# Altium schematic symbol library IC-TI.SchLib: 19 symbols
Pins are listed as number, name and electrical type; pins without a type are passive.

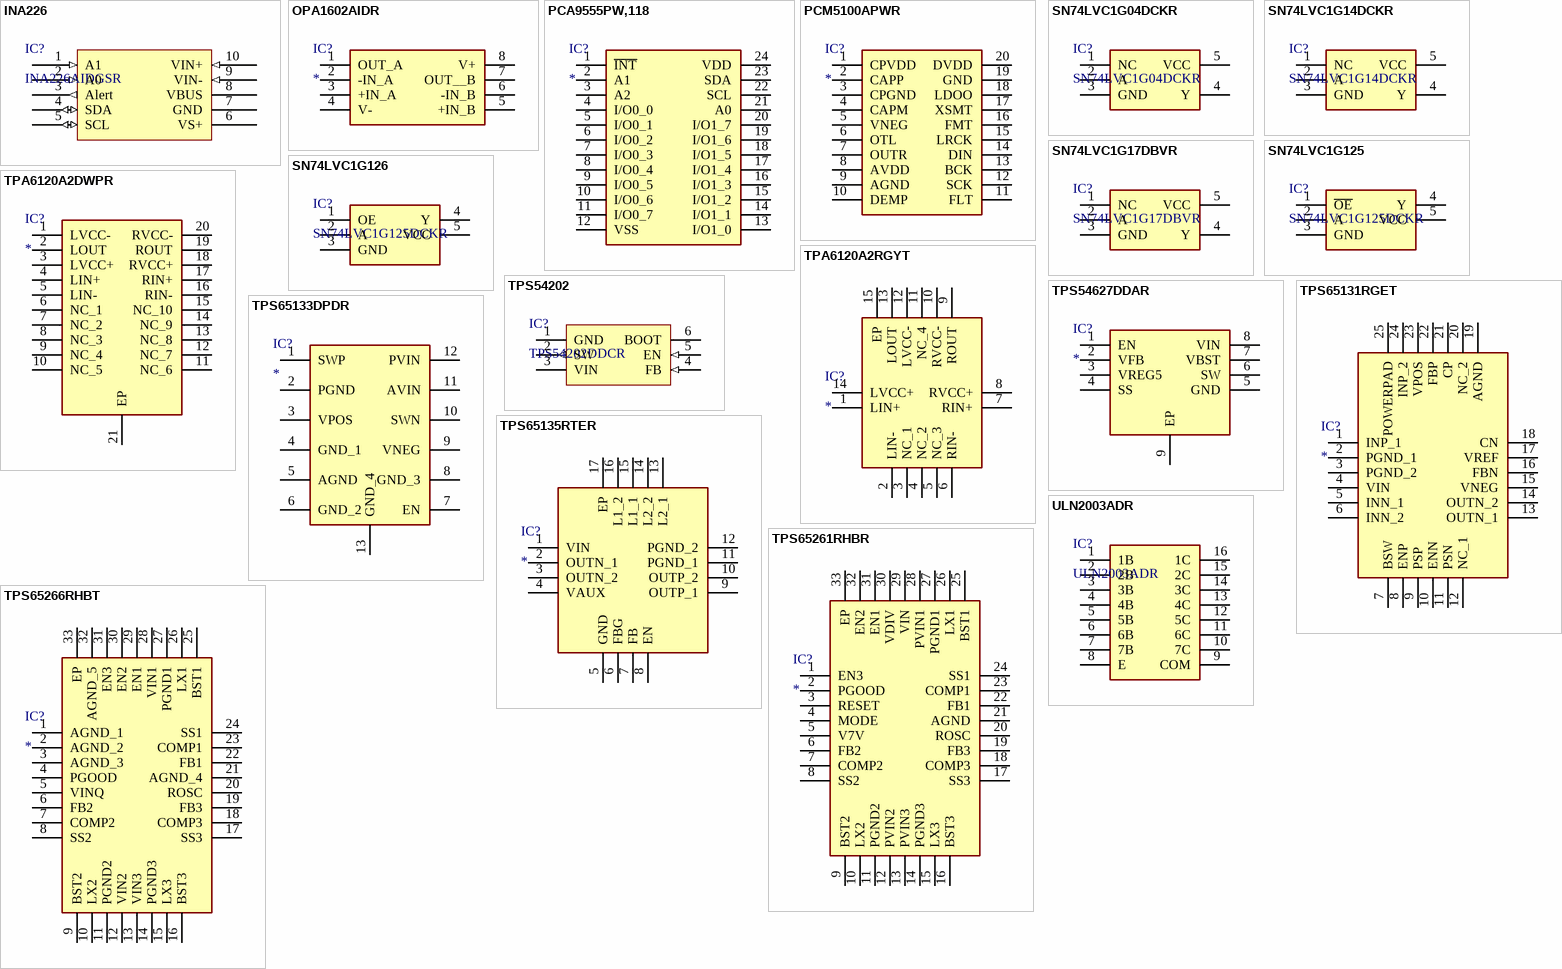
[diagram p0: symbols INA226 to ULN2003ADR]

## INA226
designator IC?, comment INA226AIDGSR
电流监控; Manufacturer_Name: TI(德州仪器); Manufacturer_Part_Number: INA226AIDGSR; LCSC: C49851
footprint MSOP-10
pins: 1 A1 (in), 2 A0 (in), 3 Alert (out), 4 SDA (io), 5 SCL (io), 6 VS+ (power), 7 GND (power), 8 VBUS (power), 9 VIN- (in), 10 VIN+ (in)

## OPA1602AIDR
designator IC?
高性能双极输入音频运算放大器; Manufacturer_Name: TI(德州仪器); Manufacturer_Part_Number: OPA1602AIDR; LCSC: C70884
footprint SOIC-8
pins: 1 OUT_A, 2 -IN_A, 3 +IN_A, 4 V-, 5 +IN_B, 6 -IN_B, 7 OUT__B, 8 V+

## PCA9555PW,118
designator IC?
I/O扩展器芯片; Manufacturer_Name: NXP(恩智浦); Manufacturer_Part_Number: PCA9555PW,118; LCSC: C128392
footprint TSSOP-24 (PCA9555PW,118)
pins: 1 ~{INT}, 2 A1, 3 A2, 4 I/O0_0, 5 I/O0_1, 6 I/O0_2, 7 I/O0_3, 8 I/O0_4, 9 I/O0_5, 10 I/O0_6, 11 I/O0_7, 12 VSS, 13 I/O1_0, 14 I/O1_1, 15 I/O1_2, 16 I/O1_3, 17 I/O1_4, 18 I/O1_5, 19 I/O1_6, 20 I/O1_7, 21 A0, 22 SCL, 23 SDA, 24 VDD

## PCM5100APWR
designator IC?
DAC 音频解码芯片; Manufacturer_Name: TI(德州仪器); Manufacturer_Part_Number: PCM5100APWR; Manufacturer_Part_Number_1: PCM5102APWR; Manufacturer_Name_1: TI(德州仪器)
footprint TSSOP-20 (TSOP, 20-Leads, Body 6.50x4.40mm, Pitch 0.65mm, IPC Medium Density)
pins: 1 CPVDD, 2 CAPP, 3 CPGND, 4 CAPM, 5 VNEG, 6 OTL, 7 OUTR, 8 AVDD, 9 AGND, 10 DEMP, 11 FLT, 12 SCK, 13 BCK, 14 DIN, 15 LRCK, 16 FMT, 17 XSMT, 18 LDOO, 19 GND, 20 DVDD

## SN74LVC1G04DCKR
designator IC?
反相器; Manufacturer_Name: TI(德州仪器); Manufacturer_Name_1: UMW(友台半导体); Manufacturer_Part_Number: SN74LVC1G04DCKR; LCSC: C2983744; Manufacturer_Part_Number_1: SN74LVC1G04DCKR
footprint SC-70-5 (TI(德州仪器)  SN74LVC1G125DCKR)
pins: 1 NC, 2 A, 3 GND, 4 Y, 5 VCC

## SN74LVC1G14DCKR
designator IC?
斯密特触发器 反相; Manufacturer_Name: TI(德州仪器); Manufacturer_Name_1: UMW(友台半导体); Manufacturer_Part_Number_1: SN74LVC1G14DCKR(UMW); Manufacturer_Part_Number: SN74LVC1G14DCKR; LCSC: C2976657
footprint SC-70-5 (TI(德州仪器)  SN74LVC1G125DCKR)
pins: 1 NC, 2 A, 3 GND, 4 Y, 5 VCC

## SN74LVC1G17DBVR
designator IC?
缓冲器/驱动器/收发器; Manufacturer_Name: UMW(友台半导体); Manufacturer_Name_1: TI(德州仪器); Manufacturer_Part_Number: SN74LVC1G17DBVR; LCSC: C7836; Manufacturer_Part_Number_1: SN74LVC1G17DBVR
footprint SOT23-5 (SOT23, 5-Leads, Body 2.90x2.80mm, Pitch 0.95mm, IPC Medium Density)
pins: 1 NC, 2 A, 3 GND, 4 Y, 5 VCC

## SN74LVC1G125
designator IC?, comment SN74LVC1G125DCKR
缓冲器/驱动器/收发器; Manufacturer_Name: TI(德州仪器); Manufacturer_Name_1: UMW(友台半导体); Manufacturer_Part_Number_1: SN74LVC1G125DCKR(UMW); Manufacturer_Part_Number: SN74LVC1G125DCKR; LCSC: C7833
footprint SC-70-5 (TI(德州仪器)  SN74LVC1G125DCKR)
pins: 1 ~{OE}, 2 A, 3 GND, 4 Y, 5 VCC

## SN74LVC1G126
designator IC?, comment SN74LVC1G125DCKR
缓冲器/驱动器/收发器; Manufacturer_Name: UMW(友台半导体); Manufacturer_Part_Number: SN74LVC1G126DCKR(UMW); Manufacturer_Name_1: TI(德州仪器); Manufacturer_Part_Number_1: SN74LVC1G126DCKR; LCSC: C7394032
footprint SC-70-5 (TI(德州仪器)  SN74LVC1G125DCKR)
pins: 1 OE, 2 A, 3 GND, 4 Y, 5 VCC

## TPA6120A2DWPR
designator IC?
耳放芯片; Manufacturer_Name: TI(德州仪器); Manufacturer_Part_Number: TPA6120A2DWPR
footprint SOIC-20-POWERPAD (TPA6120A2DWPR)
pins: 1 LVCC-, 2 LOUT, 3 LVCC+, 4 LIN+, 5 LIN-, 6 NC_1, 7 NC_2, 8 NC_3, 9 NC_4, 10 NC_5, 11 NC_6, 12 NC_7, 13 NC_8, 14 NC_9, 15 NC_10, 16 RIN-, 17 RIN+, 18 RVCC+, 19 ROUT, 20 RVCC-, 21 EP

## TPA6120A2RGYT
designator IC?
耳放芯片; Manufacturer_Name: TI(德州仪器); Manufacturer_Part_Number: TPA6120A2RGYT; LCSC: C2864675
footprint RGY-(S-PVQFN-N14)
pins: 1 LIN+, 2 LIN-, 3 NC_1, 4 NC_2, 5 NC_3, 6 RIN-, 7 RIN+, 8 RVCC+, 9 ROUT, 10 RVCC-, 11 NC_4, 12 LVCC-, 13 LOUT, 14 LVCC+, 15 EP

## TPS54202
designator IC?, comment TPS54202DDCR
DC-DC 输入0-28V 2A; Manufacturer_Name: TI(德州仪器); Manufacturer_Part_Number: TPS54202DDCR; LCSC: C191884
footprint SOT23-6 (SOT23, 6-Leads, Body 2.95x2.85mm, Pitch 0.95mm, IPC Medium Density)
pins: 1 GND, 2 SW (out), 3 VIN (power), 4 FB (in), 5 EN (in), 6 BOOT

## TPS54627DDAR
designator IC?
DC-DC 降压芯片; Manufacturer_Name: TI(德州仪器); Manufacturer_Part_Number: TPS54627DDAR
footprint SOIC-8-PowerPAD (SOIC, 8-Leads, Body 4.90x3.90mm, Pitch 1.27mm, Thermal Pad 3.10x2.40mm, IPC Medium Density)
pins: 1 EN, 2 VFB, 3 VREG5, 4 SS, 5 GND, 6 SW, 7 VBST, 8 VIN, 9 EP

## TPS65131RGET
designator IC?
输入2.7-5.5V, 双路正负15V 800mA输出直流; Manufacturer_Name: Texas Instruments; Manufacturer_Part_Number: TPS65131RGET
footprint QFN-24-EP(4x4)
pins: 1 INP_1, 2 PGND_1, 3 PGND_2, 4 VIN, 5 INN_1, 6 INN_2, 7 BSW, 8 ENP, 9 PSP, 10 ENN, 11 PSN, 12 NC_1, 13 OUTN_1, 14 OUTN_2, 15 VNEG, 16 FBN, 17 VREF, 18 CN, 19 AGND, 20 NC_2, 21 CP, 22 FBP, 23 VPOS, 24 INP_2, 25 POWERPAD

## TPS65133DPDR
designator IC?
输入2.9-5.0V, 双路正负5V 250mA输出直流; Manufacturer_Name: Texas Instruments; Manufacturer_Part_Number: TPS65133DPDR
footprint WSON-12-EP(3X3) (TPS65133DPDR)
pins: 1 SWP, 2 PGND, 3 VPOS, 4 GND_1, 5 AGND, 6 GND_2, 7 EN, 8 GND_3, 9 VNEG, 10 SWN, 11 AVIN, 12 PVIN, 13 GND_4

## TPS65135RTER
designator IC?
输入2.5-5.5V, 双路正负5V 80mA输出直流; Manufacturer_Name: Texas Instruments; Manufacturer_Part_Number: TPS65135RTER
footprint WQFN-16-EP(3x3) (TPS65135RTER)
pins: 1 VIN, 2 OUTN_1, 3 OUTN_2, 4 VAUX, 5 GND, 6 FBG, 7 FB, 8 EN, 9 OUTP_1, 10 OUTP_2, 11 PGND_1, 12 PGND_2, 13 L2_1, 14 L2_2, 15 L1_1, 16 L1_2, 17 EP

## TPS65261RHBR
designator IC?
4.5V至18V输入电压、3A/2A/2A输出电流三路同步降压转换器; Manufacturer_Name: Texas Instruments; Manufacturer_Part_Number: TPS65261RHBR
footprint VQFN-32-EP(5x5) (TPS65261RHBR)
pins: 1 EN3, 2 PGOOD, 3 RESET, 4 MODE, 5 V7V, 6 FB2, 7 COMP2, 8 SS2, 9 BST2, 10 LX2, 11 PGND2, 12 PVIN2, 13 PVIN3, 14 PGND3, 15 LX3, 16 BST3, 17 SS3, 18 COMP3, 19 FB3, 20 ROSC, 21 AGND, 22 FB1, 23 COMP1, 24 SS1, 25 BST1, 26 LX1, 27 PGND1, 28 PVIN1, 29 VIN, 30 VDIV, 31 EN1, 32 EN2, 33 EP

## TPS65266RHBT
designator IC?
2.6-6.5V三路高效同步降压转换器; Manufacturer_Name: Texas Instruments; Manufacturer_Part_Number: TPS65266RHBT
footprint VQFN-32-EP(5x5) (TPS65261RHBR)
pins: 1 AGND_1, 2 AGND_2, 3 AGND_3, 4 PGOOD, 5 VINQ, 6 FB2, 7 COMP2, 8 SS2, 9 BST2, 10 LX2, 11 PGND2, 12 VIN2, 13 VIN3, 14 PGND3, 15 LX3, 16 BST3, 17 SS3, 18 COMP3, 19 FB3, 20 ROSC, 21 AGND_4, 22 FB1, 23 COMP1, 24 SS1, 25 BST1, 26 LX1, 27 PGND1, 28 VIN1, 29 EN1, 30 EN2, 31 EN3, 32 AGND_5, 33 EP

## ULN2003ADR
designator IC?
达林顿晶体管阵列; Manufacturer_Name: TI(德州仪器); Manufacturer_Part_Number: ULN2003ADR; Manufacturer_Name_1: *; Manufacturer_Part_Number_1: *; LCSC: *
footprint SOIC-16
pins: 1 1B, 2 2B, 3 3B, 4 4B, 5 5B, 6 6B, 7 7B, 8 E, 9 COM, 10 7C, 11 6C, 12 5C, 13 4C, 14 3C, 15 2C, 16 1C